# Altium footprint library humidity sensor.PcbLib: 3 footprints
Each footprint in its own frame and in the unit in brackets; x right, y up, seen from the top. Pads: shape width x height; smd on the part's side, far side on the other; paste and mask are expansions set on the pad; w line width, h text height; cw(c..) or ccw(c..) is an arc to the next point about the centre after c.
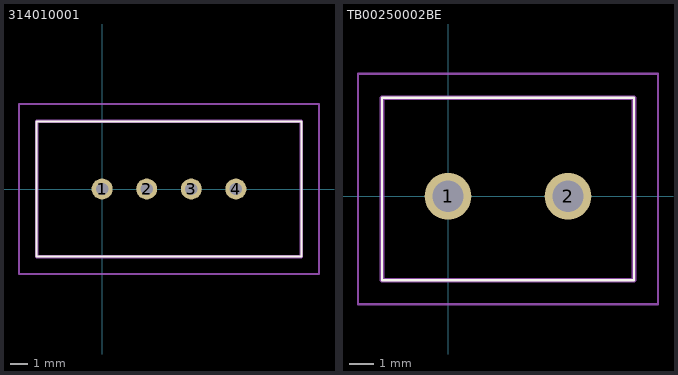
[diagram p0: the footprints below, top view; thin cyan lines are the x and y axes]

## 314010001 [mm]
pads (4):
  round 1.2 hole 0.7: 1(0,0) 2(2.54,0) 3(5.08,0) 4(7.62,0)
Top Overlay:
  lines w0.1: -3.74,-3.85 -3.74,3.85 11.36,3.85 11.36,-3.85 -3.74,-3.85
Mechanical 13:
  lines w0.2: -3.74,-3.85 -3.74,3.85 11.36,3.85 11.36,-3.85 -3.74,-3.85
Mechanical 15:
  lines w0.1: -4.74,-4.85 -4.74,4.85 12.36,4.85 12.36,-4.85 -4.74,-4.85
3D body "314010001.stp": height 25.2, standoff -5, extent -3.74,-3.85 11.36,3.85

## PCBComponent_1 [mm]

## TB00250002BE [mm]
pads (2):
  round 1.95 hole 1.3: 1(0,0) 2(5,0)
Top Overlay:
  lines w0.1: -2.75,-3.5 -2.75,4.1 7.75,4.1 7.75,-3.5 -2.75,-3.5
Mechanical 13:
  lines w0.2: -2.75,-3.5 -2.75,4.1 7.75,4.1 7.75,-3.5 -2.75,-3.5
Mechanical 15:
  lines w0.1: -3.75,-4.5 -3.75,5.1 8.75,5.1 8.75,-4.5 -3.75,-4.5
3D body "TB002-500-02BE.stp": height 9.99, standoff -4.36, extent -2.51,-4.08 7.99,3.52